# Altium footprint library PEI_PCB_1.1.PcbLib: 310 footprints (part 14 of 20)
Each footprint in its own frame and in the unit in brackets; x right, y up, seen from the top. Pads: shape width x height; smd on the part's side, far side on the other; paste and mask are expansions set on the pad; w line width, h text height; cw(c..) or ccw(c..) is an arc to the next point about the centre after c.
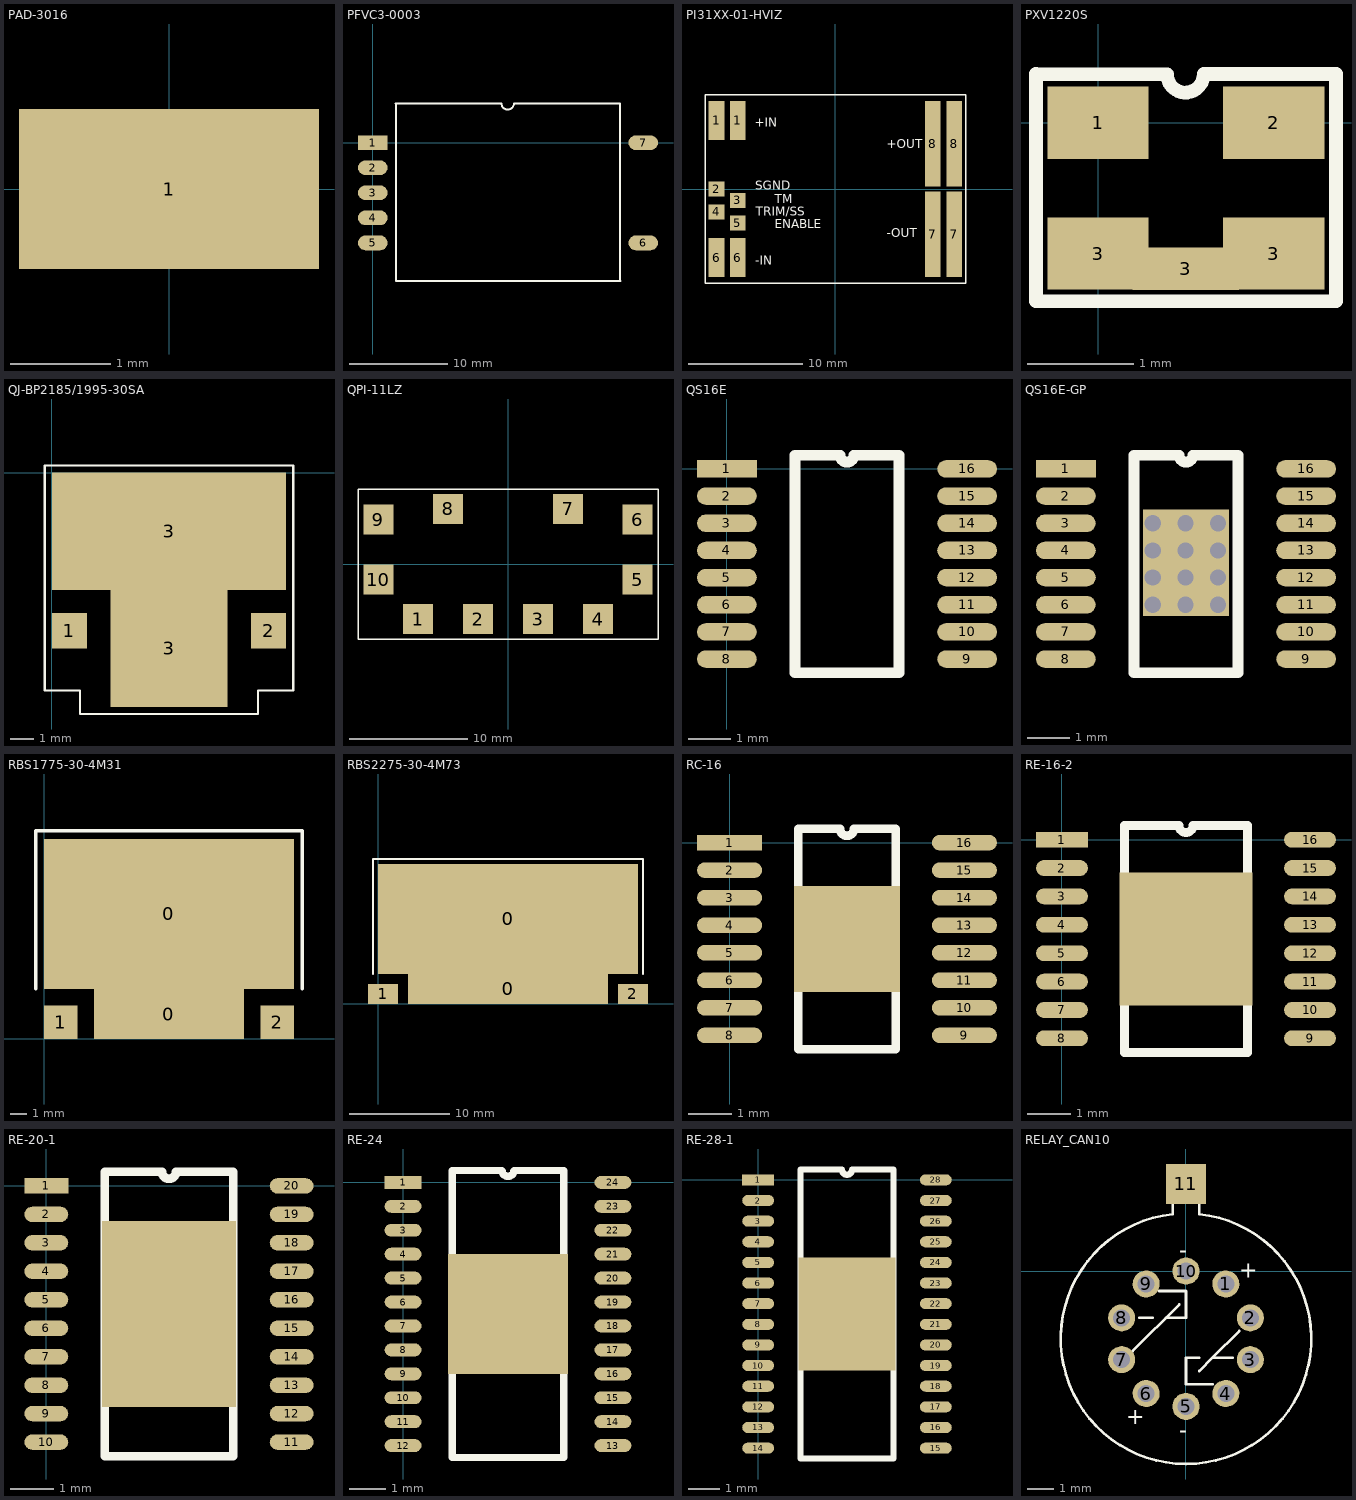
[diagram p13: the footprints below, top view; thin cyan lines are the x and y axes]

## PAD-3016 [mm]
pads (1):
  rect 3x1.6 smd: 1(0,0)

## PFVC3-0003 [mm]
pads (7):
  rect 3x1.5 smd: 1(0,0)
  oval 3x1.5 smd: 2(0,-2.54) 3(0,-5.08) 4(0,-7.62) 5(0,-10.16) 6(27.43,-10.16) 7(27.43,0)
TopOverlay:
  lines w0.2: 2.305,3.988 13.05,3.988 ccw(c13.685,3.988) 14.32,3.988 25.065,3.988 ; 2.335,-14 2.335,4 ; 2.362,-14.013 25.122,-14.013 ; 25.095,-14 25.095,4

## PI31XX-01-HVIZ [mil]
pads (12):
  rect 54x135 smd: 1(-411,237) 1(-337,237) 6(-411,-237) 6(-337,-237)
  rect 54x52 smd: 2(-411,0) 3(-337,-39) 4(-411,-79) 5(-337,-118)
  rect 54x295 smd: 7(337,-157) 7(411,-157) 8(337,157) 8(411,157)
TopOverlay:
  lines w5: -450,-325 450,-325 450,325 0,325 -450,325 -450,-325
  text "+IN" at -279,216 h30
  text "-IN" at -278,-261 h30
  text "SGND" at -277,-2 h30
  text "TM" at -210,-49 h30
  text "TRIM/SS" at -276,-92 h30
  text "ENABLE" at -210,-136 h30
  text "+OUT" at 178,140 h30
  text "-OUT" at 178,-166 h30

## PXV1220S [mm]
pads (5):
  rect 0.95x0.68 smd: 1(0,0) 2(1.65,0) 3(0,-1.23) 3(1.65,-1.23)
  rect 1x0.4 smd: 3(0.825,-1.372)
TopOverlay:
  lines w0.127: -0.584,-1.676 2.235,-1.676 2.235,-1.047 2.235,0.457 0.991,0.457 cw(c0.82,0.454) 0.649,0.454 -0.584,0.457 -0.584,-0.996 -0.584,-1.676

## QJ-BP2185/1995-30SA [mm]
pads (4):
  rect 1.5x1.5 smd: 1(0.75,-6.75) 2(9.25,-6.75)
  rect 5x5 smd: 3(5,-7.5)
  rect 10x5 smd: 3(5,-2.5)
TopOverlay:
  lines w0.1: -0.3,-9.3 1.2,-9.3 1.2,-10.3 8.8,-10.3 8.8,-9.3 10.3,-9.3 10.3,0.3 -0.3,0.3 -0.3,-9.3

## QPI-11LZ [mil]
pads (10):
  rect 100x100 smd: 1(-300,-184) 2(-100,-184) 3(100,-184) 4(300,-184) 5(432,-52) 6(432,148) 7(200,184) 8(-200,184) 9(-432,148) 10(-432,-52)
TopOverlay:
  lines w5: -500,-250 -500,250 500,250 500,-250 0,-250 -500,-250

## QS16E [mil]
pads (16):
  rect 55x16 smd: 1(0,0)
  oval 55x16 smd: 2(0,-25) 3(0,-50) 4(0,-75) 5(0,-100) 6(0,-125) 7(0,-150) 8(0,-175) 9(221,-175) 10(221,-150) 11(221,-125) 12(221,-100) 13(221,-75) 14(221,-50) 15(221,-25) 16(221,0)
TopOverlay:
  lines w10: 62.5,-187.5 158.5,-187.5 158.5,12.5 116.75,12.5 cw(c110.5,12.5) 104.25,12.5 62.5,12.5 62.5,-187.5

## QS16E-GP [mil]
pads (17):
  rect 55x16 smd: 1(-16000,-1000)
  oval 55x16 smd: 2(-16000,-1025) 3(-16000,-1050) 4(-16000,-1075) 5(-16000,-1100) 6(-16000,-1125) 7(-16000,-1150) 8(-16000,-1175) 9(-15779,-1175) 10(-15779,-1150) 11(-15779,-1125) 12(-15779,-1100) 13(-15779,-1075) 14(-15779,-1050) 15(-15779,-1025) 16(-15779,-1000)
  rect 79x98 smd: ""(-15889.5,-1086.5)
via -15920,-1050 diameter 15 hole 15
via -15890,-1050 diameter 15 hole 15
via -15860,-1050 diameter 15 hole 15
via -15920,-1075 diameter 15 hole 15
via -15890,-1075 diameter 15 hole 15
via -15860,-1075 diameter 15 hole 15
via -15920,-1100 diameter 15 hole 15
via -15890,-1100 diameter 15 hole 15
via -15860,-1100 diameter 15 hole 15
via -15920,-1125 diameter 15 hole 15
via -15890,-1125 diameter 15 hole 15
via -15860,-1125 diameter 15 hole 15
TopOverlay:
  lines w10: -15937.5,-1187.5 -15841.5,-1187.5 -15841.5,-987.5 -15883.25,-987.5 cw(c-15889.5,-987.5) -15895.75,-987.5 -15937.5,-987.5 -15937.5,-1187.5

## RBS1775-30-4M31 [mm]
pads (4):
  rect 9x3 smd: 0(7.5,1.5)
  rect 15x9 smd: 0(7.5,7.5)
  rect 2x2 smd: 1(1,1) 2(14,1)
TopOverlay:
  lines w0.2: -0.5,3 -0.5,12.5 15.5,12.5 15.5,3

## RBS2275-30-4M73 [mm]
pads (4):
  rect 26x11 smd: 0(13,8.5)
  rect 20x3 smd: 0(13,1.5)
  rect 3x2 smd: 1(0.5,1) 2(25.5,1)
TopOverlay:
  lines w0.2: -0.5,3 -0.5,14.5 26.5,14.5 26.5,3

## RC-16 [mm]
pads (17):
  rect 1.5x0.36 smd: 1(0,0)
  oval 1.5x0.36 smd: 2(0,-0.635) 3(0,-1.27) 4(0,-1.905) 5(0,-2.54) 6(0,-3.175) 7(0,-3.81) 8(0,-4.445) 9(5.42,-4.445) 10(5.42,-3.81) 11(5.42,-3.175) 12(5.42,-2.54) 13(5.42,-1.905) 14(5.42,-1.27) 15(5.42,-0.635) 16(5.42,0)
  rect 2.44x2.44 smd: ""(2.71,-2.222)
TopOverlay:
  lines w0.2: 1.585,-4.763 1.585,0.318 2.551,0.318 ccw(c2.71,0.318) 2.869,0.317 3.835,0.318 3.835,-4.763 1.585,-4.763

## RE-16-2 [mm]
pads (17):
  rect 1.19x0.36 smd: 1(0,0)
  oval 1.19x0.36 smd: 2(0,-0.65) 3(0,-1.3) 4(0,-1.95) 5(0,-2.6) 6(0,-3.25) 7(0,-3.9) 8(0,-4.55) 9(5.68,-4.55) 10(5.68,-3.9) 11(5.68,-3.25) 12(5.68,-2.6) 13(5.68,-1.95) 14(5.68,-1.3) 15(5.68,-0.65) 16(5.68,0)
  rect 3.05x3.05 smd: ""(2.84,-2.275)
TopOverlay:
  lines w0.2: 1.43,-4.875 1.43,0.325 2.677,0.325 ccw(c2.84,0.325) 3.003,0.325 4.25,0.325 4.25,-4.875 1.43,-4.875

## RE-20-1 [mm]
pads (21):
  rect 1x0.35 smd: 1(0,0)
  oval 1x0.35 smd: 2(0,-0.65) 3(0,-1.3) 4(0,-1.95) 5(0,-2.6) 6(0,-3.25) 7(0,-3.9) 8(0,-4.55) 9(0,-5.2) 10(0,-5.85) 11(5.6,-5.85) 12(5.6,-5.2) 13(5.6,-4.55) 14(5.6,-3.9) 15(5.6,-3.25) 16(5.6,-2.6) 17(5.6,-1.95) 18(5.6,-1.3) 19(5.6,-0.65) 20(5.6,0)
  rect 3.05x4.25 smd: ""(2.8,-2.925)
TopOverlay:
  lines w0.2: 1.335,-6.175 4.265,-6.175 4.265,0.325 2.963,0.325 cw(c2.8,0.325) 2.637,0.325 1.335,0.325 1.335,-6.175

## RE-24 [mm]
pads (25):
  rect 1x0.35 smd: 1(0,0)
  oval 1x0.35 smd: 2(0,-0.65) 3(0,-1.3) 4(0,-1.95) 5(0,-2.6) 6(0,-3.25) 7(0,-3.9) 8(0,-4.55) 9(0,-5.2) 10(0,-5.85) 11(0,-6.5) 12(0,-7.15) 13(5.7,-7.15) 14(5.7,-6.5) 15(5.7,-5.85) 16(5.7,-5.2) 17(5.7,-4.55) 18(5.7,-3.9) 19(5.7,-3.25) 20(5.7,-2.6) 21(5.7,-1.95) 22(5.7,-1.3) 23(5.7,-0.65) 24(5.7,0)
  rect 3.25x3.25 smd: ""(2.85,-3.575)
TopOverlay:
  lines w0.2: 1.335,-7.475 4.365,-7.475 4.365,0.325 3.012,0.325 cw(c2.85,0.325) 2.687,0.325 1.335,0.325 1.335,-7.475

## RE-28-1 [mm]
pads (29):
  rect 1x0.35 smd: 1(0,0)
  oval 1x0.35 smd: 2(0,-0.65) 3(0,-1.3) 4(0,-1.95) 5(0,-2.6) 6(0,-3.25) 7(0,-3.9) 8(0,-4.55) 9(0,-5.2) 10(0,-5.85) 11(0,-6.5) 12(0,-7.15) 13(0,-7.8) 14(0,-8.45) 15(5.6,-8.45) 16(5.6,-7.8) 17(5.6,-7.15) 18(5.6,-6.5) 19(5.6,-5.85) 20(5.6,-5.2) 21(5.6,-4.55) 22(5.6,-3.9) 23(5.6,-3.25) 24(5.6,-2.6) 25(5.6,-1.95) 26(5.6,-1.3) 27(5.6,-0.65) 28(5.6,0)
  rect 3.05x3.55 smd: ""(2.8,-4.225)
TopOverlay:
  lines w0.2: 1.335,-8.775 1.335,0.325 2.638,0.325 ccw(c2.8,0.325) 2.963,0.325 4.265,0.325 4.265,-8.775 1.335,-8.775

## RELAY_CAN10 [mil]
pads (11):
  round 40 hole 25: 1(58.95,-18.7) 2(95.28,-68.7) 3(95.28,-130.5) 4(58.95,-180.5) 5(0.17,-199.6) 6(-58.61,-180.5) 7(-94.93,-130.5) 8(-94.93,-68.7) 9(-58.61,-18.7) 10(0.17,0.4)
  rect 59.06x59.06 smd: 11(0,129)
TopOverlay:
  lines w3.94: -78.57,-117.71 -9.67,-48.81 ; -68.72,-68.5 -49.04,-68.5 ; -39.2,-29.13 0.17,-29.13 0.17,-68.5 -29.35,-68.5 ; 19.86,-147.24 39.54,-127.55 ; 19.86,-127.55 0.17,-127.55 0.17,-166.92 39.54,-166.92 ; 69.07,-127.55 39.54,-127.55 ; 78.91,-88.18 39.54,-127.55 ; -29.35,-68.5 -29.35,-68.5 ; 39.54,-127.55 39.54,-127.55 ; -19.44,84.4 ccw(c0.17,-99.6) 19.79,84.4 19.79,138.13 -19.44,138.13 -19.44,84.4
  text "-" at -9.67,-245.66 h23.62
  text "-" at -9.67,20.09 h23.62
  text "+" at -88.41,-225.98 h23.62
  text "+" at 78.91,-9.44 h23.62